# Altium schematic symbol library WCAP-ASNP_4X5.5.SchLib: 1 symbol
Pins are listed as number, name and electrical type; pins without a type are passive.

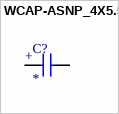
[diagram p0: symbol WCAP-ASNP_4X5.5]

## WCAP-ASNP_4X5.5
designator C?
CAP ALUM 10UF 20% 16V SMD; MF: WÃ¼rth Elektronik; MP: 865250340003; SnapEDA_Link: https://www.snapeda.com/parts/865250340003/W%25C3%25BCrth+Elektronik+Midcom/view-part/?ref=snap; Package: Radial WÃ¼rth Elektronik; Value: *; Check_prices: https://www.snapeda.com/parts/865250340003/W%25C3%25BCrth+Elektronik+Midcom/view-part/?ref=eda
footprint WCAP-ASNP_4X5.5(DXL)
pins: 1, 2
text: +